# Altium schematic symbol library WE-CBA.SchLib: 88 symbols (part 1 of 2)
Pins are listed as number, name and electrical type; pins without a type are passive.

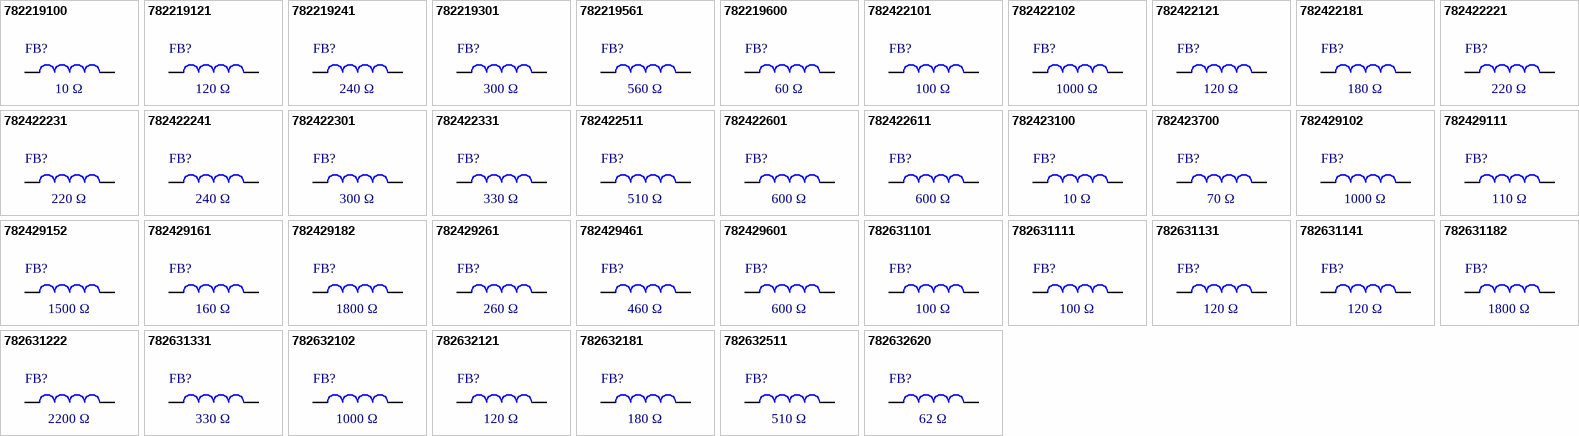
[diagram p0: symbols 782219100 to 782632620]

## 782219100
designator FB?, comment 10 Ω
WE-CBA SMT EMI Suppression Ferrite Bead, size 0201, 10 Ω, 650 mA; Manufacturer Part Number: 782219100; Manufacturer: Wurth Elektronik; Case/Size Code: 0201; DC Resistance: 55 mΩ; Impedance Max: 12.6 Ω; Rated Current: 650 mA; Type: Wide Band; Category: Ferrites for PCB Assembly; Match Code: WE-CBA; ComponentLink1Description: Website Link; ComponentLink1URL: https://www.we-online.com/redexpert/article/782219100?ad; ComponentLink2Description: Datasheet Link; ComponentLink2URL: https://www.we-online.com/redexpert/spec/782219100?ad; Mount: Surface Mount; Min Operating Temperature: -55 °C; Max Operating Temperature: 125 °C; Packaging: Tape and Reel; Length: 0.6 mm; Width: 0.3 mm; Height: 0.3 mm; Impedance @100MHz: 10 Ω
footprint WE-CBA_0201_L0.6W0.3H0.3_HF_HS_WB
simulation model 0201_782219100_10ohm
pins: 1, 2

## 782219121
designator FB?, comment 120 Ω
WE-CBA SMT EMI Suppression Ferrite Bead, size 0201, 120 Ω, 250 mA; Manufacturer Part Number: 782219121; Manufacturer: Wurth Elektronik; Case/Size Code: 0201; DC Resistance: 290 mΩ; Impedance Max: 259 Ω; Rated Current: 250 mA; Type: Wide Band; Category: Ferrites for PCB Assembly; Match Code: WE-CBA; ComponentLink1Description: Website Link; ComponentLink1URL: https://www.we-online.com/redexpert/article/782219121?ad; ComponentLink2Description: Datasheet Link; ComponentLink2URL: https://www.we-online.com/redexpert/spec/782219121?ad; Mount: Surface Mount; Min Operating Temperature: -55 °C; Max Operating Temperature: 125 °C; Packaging: Tape and Reel; Length: 0.6 mm; Width: 0.3 mm; Height: 0.3 mm; Impedance @100MHz: 120 Ω
footprint WE-CBA_0201_L0.6W0.3H0.3_HF_HS_WB
simulation model 0201_782219121_120ohm
pins: 1, 2

## 782219241
designator FB?, comment 240 Ω
WE-CBA SMT EMI Suppression Ferrite Bead, size 0201, 240 Ω, 300 mA; Manufacturer Part Number: 782219241; Manufacturer: Wurth Elektronik; Case/Size Code: 0201; DC Resistance: 570 mΩ; Impedance Max: 536 Ω; Rated Current: 300 mA; Type: Wide Band; Category: Ferrites for PCB Assembly; Match Code: WE-CBA; ComponentLink1Description: Website Link; ComponentLink1URL: https://www.we-online.com/redexpert/article/782219241?ad; ComponentLink2Description: Datasheet Link; ComponentLink2URL: https://www.we-online.com/redexpert/spec/782219241?ad; Mount: Surface Mount; Min Operating Temperature: -55 °C; Max Operating Temperature: 125 °C; Packaging: Tape and Reel; Length: 0.6 mm; Width: 0.3 mm; Height: 0.3 mm; Impedance @100MHz: 240 Ω
footprint WE-CBA_0201_L0.6W0.3H0.3_HF_HS_WB
simulation model 0201_782219241_240ohm
pins: 1, 2

## 782219301
designator FB?, comment 300 Ω
WE-CBA SMT EMI Suppression Ferrite Bead, size 0201, 300 Ω, 400 mA; Manufacturer Part Number: 782219301; Manufacturer: Wurth Elektronik; Case/Size Code: 0201; DC Resistance: 610 mΩ; Impedance Max: 455 Ω; Rated Current: 400 mA; Type: Wide Band; Category: Ferrites for PCB Assembly; Match Code: WE-CBA; ComponentLink1Description: Website Link; ComponentLink1URL: https://www.we-online.com/redexpert/article/782219301?ad; ComponentLink2Description: Datasheet Link; ComponentLink2URL: https://www.we-online.com/redexpert/spec/782219301?ad; Mount: Surface Mount; Min Operating Temperature: -55 °C; Max Operating Temperature: 125 °C; Packaging: Tape and Reel; Length: 0.6 mm; Width: 0.3 mm; Height: 0.3 mm; Impedance @100MHz: 300 Ω
footprint WE-CBA_0201_L0.6W0.3H0.3_HF_HS_WB
simulation model 0201_782219301_300ohm
pins: 1, 2

## 782219561
designator FB?, comment 560 Ω
WE-CBA SMT EMI Suppression Ferrite Bead, size 0201, 560 Ω, 250 mA; Manufacturer Part Number: 782219561; Manufacturer: Wurth Elektronik; Case/Size Code: 0201; DC Resistance: 750 mΩ; Impedance Max: 750 Ω; Rated Current: 250 mA; Type: Wide Band; Category: Ferrites for PCB Assembly; Match Code: WE-CBA; ComponentLink1Description: Website Link; ComponentLink1URL: https://www.we-online.com/redexpert/article/782219561?ad; ComponentLink2Description: Datasheet Link; ComponentLink2URL: https://www.we-online.com/redexpert/spec/782219561?ad; Mount: Surface Mount; Min Operating Temperature: -55 °C; Max Operating Temperature: 125 °C; Packaging: Tape and Reel; Length: 0.6 mm; Width: 0.3 mm; Height: 0.3 mm; Impedance @100MHz: 560 Ω
footprint WE-CBA_0201_L0.6W0.3H0.3_HF_HS_WB
simulation model 0201_782219561_560ohm
pins: 1, 2

## 782219600
designator FB?, comment 60 Ω
WE-CBA SMT EMI Suppression Ferrite Bead, size 0201, 60 Ω, 400 mA; Manufacturer Part Number: 782219600; Manufacturer: Wurth Elektronik; Case/Size Code: 0201; DC Resistance: 250 mΩ; Impedance Max: 135 Ω; Rated Current: 400 mA; Type: Wide Band; Category: Ferrites for PCB Assembly; Match Code: WE-CBA; ComponentLink1Description: Website Link; ComponentLink1URL: https://www.we-online.com/redexpert/article/782219600?ad; ComponentLink2Description: Datasheet Link; ComponentLink2URL: https://www.we-online.com/redexpert/spec/782219600?ad; Mount: Surface Mount; Min Operating Temperature: -55 °C; Max Operating Temperature: 125 °C; Packaging: Tape and Reel; Length: 0.6 mm; Width: 0.3 mm; Height: 0.3 mm; Impedance @100MHz: 60 Ω
footprint WE-CBA_0201_L0.6W0.3H0.3_HF_HS_WB
simulation model 0201_782219600_60ohm
pins: 1, 2

## 782422101
designator FB?, comment 100 Ω
WE-CBA SMT EMI Suppression Ferrite Bead, size 0402, 100 Ω, 500 mA; Manufacturer Part Number: 782422101; Manufacturer: Wurth Elektronik; Case/Size Code: 0402; DC Resistance: 300 mΩ; Impedance Max: 180 Ω; Rated Current: 500 mA; Type: Wide Band; Category: Ferrites for PCB Assembly; Match Code: WE-CBA; ComponentLink1Description: Website Link; ComponentLink1URL: https://www.we-online.com/redexpert/article/782422101?ad; ComponentLink2Description: Datasheet Link; ComponentLink2URL: https://www.we-online.com/redexpert/spec/782422101?ad; Mount: Surface Mount; Min Operating Temperature: -55 °C; Max Operating Temperature: 125 °C; Packaging: Tape and Reel; Length: 1 mm; Width: 0.5 mm; Height: 0.5 mm; Impedance @100MHz: 100 Ω
footprint WE-CBA_0402_L1W0.5H0.5_HF_HS_WB
simulation model 0402_782422101_100ohm
pins: 1, 2

## 782422102
designator FB?, comment 1000 Ω
WE-CBA SMT EMI Suppression Ferrite Bead, size 0402, 1000 Ω, 200 mA; Manufacturer Part Number: 782422102; Manufacturer: Wurth Elektronik; Case/Size Code: 0402; DC Resistance: 1 Ω; Impedance Max: 1200 Ω; Rated Current: 200 mA; Type: Wide Band; Category: Ferrites for PCB Assembly; Match Code: WE-CBA; ComponentLink1Description: Website Link; ComponentLink1URL: https://www.we-online.com/redexpert/article/782422102?ad; ComponentLink2Description: Datasheet Link; ComponentLink2URL: https://www.we-online.com/redexpert/spec/782422102?ad; Mount: Surface Mount; Min Operating Temperature: -55 °C; Max Operating Temperature: 125 °C; Packaging: Tape and Reel; Length: 1 mm; Width: 0.5 mm; Height: 0.5 mm; Impedance @100MHz: 1000 Ω
footprint WE-CBA_0402_L1W0.5H0.5_HF_HS_WB
simulation model 0402_782422102_1000ohm
pins: 1, 2

## 782422121
designator FB?, comment 120 Ω
WE-CBA SMT EMI Suppression Ferrite Bead, size 0402, 120 Ω, 500 mA; Manufacturer Part Number: 782422121; Manufacturer: Wurth Elektronik; Case/Size Code: 0402; DC Resistance: 200 mΩ; Impedance Max: 200 Ω; Rated Current: 500 mA; Type: Wide Band; Category: Ferrites for PCB Assembly; Match Code: WE-CBA; ComponentLink1Description: Website Link; ComponentLink1URL: https://www.we-online.com/redexpert/article/782422121?ad; ComponentLink2Description: Datasheet Link; ComponentLink2URL: https://www.we-online.com/redexpert/spec/782422121?ad; Mount: Surface Mount; Min Operating Temperature: -55 °C; Max Operating Temperature: 125 °C; Packaging: Tape and Reel; Length: 1 mm; Width: 0.5 mm; Height: 0.5 mm; Impedance @100MHz: 120 Ω
footprint WE-CBA_0402_L1W0.5H0.5_HF_HS_WB
simulation model 0402_782422121_120ohm
pins: 1, 2

## 782422181
designator FB?, comment 180 Ω
WE-CBA SMT EMI Suppression Ferrite Bead, size 0402, 180 Ω, 400 mA; Manufacturer Part Number: 782422181; Manufacturer: Wurth Elektronik; Case/Size Code: 0402; DC Resistance: 300 mΩ; Impedance Max: 260 Ω; Rated Current: 400 mA; Type: Wide Band; Category: Ferrites for PCB Assembly; Match Code: WE-CBA; ComponentLink1Description: Website Link; ComponentLink1URL: https://www.we-online.com/redexpert/article/782422181?ad; ComponentLink2Description: Datasheet Link; ComponentLink2URL: https://www.we-online.com/redexpert/spec/782422181?ad; Mount: Surface Mount; Min Operating Temperature: -55 °C; Max Operating Temperature: 125 °C; Packaging: Tape and Reel; Length: 1 mm; Width: 0.5 mm; Height: 0.5 mm; Impedance @100MHz: 180 Ω
footprint WE-CBA_0402_L1W0.5H0.5_HF_HS_WB
simulation model 0402_782422181_180ohm
pins: 1, 2

## 782422221
designator FB?, comment 220 Ω
WE-CBA SMT EMI Suppression Ferrite Bead, size 0402, 220 Ω, 400 mA; Manufacturer Part Number: 782422221; Manufacturer: Wurth Elektronik; Case/Size Code: 0402; DC Resistance: 300 mΩ; Impedance Max: 330 Ω; Rated Current: 400 mA; Type: Wide Band; Category: Ferrites for PCB Assembly; Match Code: WE-CBA; ComponentLink1Description: Website Link; ComponentLink1URL: https://www.we-online.com/redexpert/article/782422221?ad; ComponentLink2Description: Datasheet Link; ComponentLink2URL: https://www.we-online.com/redexpert/spec/782422221?ad; Mount: Surface Mount; Min Operating Temperature: -55 °C; Max Operating Temperature: 125 °C; Packaging: Tape and Reel; Length: 1 mm; Width: 0.5 mm; Height: 0.5 mm; Impedance @100MHz: 220 Ω
footprint WE-CBA_0402_L1W0.5H0.5_HF_HS_WB
simulation model 0402_782422221_220ohm
pins: 1, 2

## 782422231
designator FB?, comment 220 Ω
WE-CBA SMT EMI Suppression Ferrite Bead, size 0402, 220 Ω, 300 mA; Manufacturer Part Number: 782422231; Manufacturer: Wurth Elektronik; Case/Size Code: 0402; DC Resistance: 350 mΩ; Impedance Max: 360 Ω; Rated Current: 300 mA; Type: Wide Band; Category: Ferrites for PCB Assembly; Match Code: WE-CBA; ComponentLink1Description: Website Link; ComponentLink1URL: https://www.we-online.com/redexpert/article/782422231?ad; ComponentLink2Description: Datasheet Link; ComponentLink2URL: https://www.we-online.com/redexpert/spec/782422231?ad; Mount: Surface Mount; Min Operating Temperature: -55 °C; Max Operating Temperature: 125 °C; Packaging: Tape and Reel; Length: 1 mm; Width: 0.5 mm; Height: 0.5 mm; Impedance @100MHz: 220 Ω
footprint WE-CBA_0402_L1W0.5H0.5_HF_HS_WB
simulation model 0402_782422231_220ohm
pins: 1, 2

## 782422241
designator FB?, comment 240 Ω
WE-CBA SMT EMI Suppression Ferrite Bead, size 0402, 240 Ω, 300 mA; Manufacturer Part Number: 782422241; Manufacturer: Wurth Elektronik; Case/Size Code: 0402; DC Resistance: 350 mΩ; Impedance Max: 290 Ω; Rated Current: 300 mA; Type: Wide Band; Category: Ferrites for PCB Assembly; Match Code: WE-CBA; ComponentLink1Description: Website Link; ComponentLink1URL: https://www.we-online.com/redexpert/article/782422241?ad; ComponentLink2Description: Datasheet Link; ComponentLink2URL: https://www.we-online.com/redexpert/spec/782422241?ad; Mount: Surface Mount; Min Operating Temperature: -55 °C; Max Operating Temperature: 125 °C; Packaging: Tape and Reel; Length: 1 mm; Width: 0.5 mm; Height: 0.5 mm; Impedance @100MHz: 240 Ω
footprint WE-CBA_0402_L1W0.5H0.5_HF_HS_WB
simulation model 0402_782422241_240ohm
pins: 1, 2

## 782422301
designator FB?, comment 300 Ω
WE-CBA SMT EMI Suppression Ferrite Bead, size 0402, 300 Ω, 200 mA; Manufacturer Part Number: 782422301; Manufacturer: Wurth Elektronik; Case/Size Code: 0402; DC Resistance: 700 mΩ; Impedance Max: 400 Ω; Rated Current: 200 mA; Type: Wide Band; Category: Ferrites for PCB Assembly; Match Code: WE-CBA; ComponentLink1Description: Website Link; ComponentLink1URL: https://www.we-online.com/redexpert/article/782422301?ad; ComponentLink2Description: Datasheet Link; ComponentLink2URL: https://www.we-online.com/redexpert/spec/782422301?ad; Mount: Surface Mount; Min Operating Temperature: -55 °C; Max Operating Temperature: 125 °C; Packaging: Tape and Reel; Length: 1 mm; Width: 0.5 mm; Height: 0.5 mm; Impedance @100MHz: 300 Ω
footprint WE-CBA_0402_L1W0.5H0.5_HF_HS_WB
simulation model 0402_782422301_300ohm
pins: 1, 2

## 782422331
designator FB?, comment 330 Ω
WE-CBA SMT EMI Suppression Ferrite Bead, size 0402, 330 Ω, 300 mA; Manufacturer Part Number: 782422331; Manufacturer: Wurth Elektronik; Case/Size Code: 0402; DC Resistance: 500 mΩ; Impedance Max: 640 Ω; Rated Current: 300 mA; Type: Wide Band; Category: Ferrites for PCB Assembly; Match Code: WE-CBA; ComponentLink1Description: Website Link; ComponentLink1URL: https://www.we-online.com/redexpert/article/782422331?ad; ComponentLink2Description: Datasheet Link; ComponentLink2URL: https://www.we-online.com/redexpert/spec/782422331?ad; Mount: Surface Mount; Min Operating Temperature: -55 °C; Max Operating Temperature: 125 °C; Packaging: Tape and Reel; Length: 1 mm; Width: 0.5 mm; Height: 0.5 mm; Impedance @100MHz: 330 Ω
footprint WE-CBA_0402_L1W0.5H0.5_HF_HS_WB
simulation model 0402_782422331_330ohm
pins: 1, 2

## 782422511
designator FB?, comment 510 Ω
WE-CBA SMT EMI Suppression Ferrite Bead, size 0402, 510 Ω, 200 mA; Manufacturer Part Number: 782422511; Manufacturer: Wurth Elektronik; Case/Size Code: 0402; DC Resistance: 800 mΩ; Impedance Max: 730 Ω; Rated Current: 200 mA; Type: Wide Band; Category: Ferrites for PCB Assembly; Match Code: WE-CBA; ComponentLink1Description: Website Link; ComponentLink1URL: https://www.we-online.com/redexpert/article/782422511?ad; ComponentLink2Description: Datasheet Link; ComponentLink2URL: https://www.we-online.com/redexpert/spec/782422511?ad; Mount: Surface Mount; Min Operating Temperature: -55 °C; Max Operating Temperature: 125 °C; Packaging: Tape and Reel; Length: 1 mm; Width: 0.5 mm; Height: 0.5 mm; Impedance @100MHz: 510 Ω
footprint WE-CBA_0402_L1W0.5H0.5_HF_HS_WB
simulation model 0402_782422511_510ohm
pins: 1, 2

## 782422601
designator FB?, comment 600 Ω
WE-CBA SMT EMI Suppression Ferrite Bead, size 0402, 600 Ω, 200 mA; Manufacturer Part Number: 782422601; Manufacturer: Wurth Elektronik; Case/Size Code: 0402; DC Resistance: 800 mΩ; Impedance Max: 800 Ω; Rated Current: 200 mA; Type: Wide Band; Category: Ferrites for PCB Assembly; Match Code: WE-CBA; ComponentLink1Description: Website Link; ComponentLink1URL: https://www.we-online.com/redexpert/article/782422601?ad; ComponentLink2Description: Datasheet Link; ComponentLink2URL: https://www.we-online.com/redexpert/spec/782422601?ad; Mount: Surface Mount; Min Operating Temperature: -55 °C; Max Operating Temperature: 125 °C; Packaging: Tape and Reel; Length: 1 mm; Width: 0.5 mm; Height: 0.5 mm; Impedance @100MHz: 600 Ω
footprint WE-CBA_0402_L1W0.5H0.5_HF_HS_WB
simulation model 0402_782422601_600ohm
pins: 1, 2

## 782422611
designator FB?, comment 600 Ω
WE-CBA SMT EMI Suppression Ferrite Bead, size 0402, 600 Ω, 300 mA; Manufacturer Part Number: 782422611; Manufacturer: Wurth Elektronik; Case/Size Code: 0402; DC Resistance: 600 mΩ; Impedance Max: 900 Ω; Rated Current: 300 mA; Type: Wide Band; Category: Ferrites for PCB Assembly; Match Code: WE-CBA; ComponentLink1Description: Website Link; ComponentLink1URL: https://www.we-online.com/redexpert/article/782422611?ad; ComponentLink2Description: Datasheet Link; ComponentLink2URL: https://www.we-online.com/redexpert/spec/782422611?ad; Mount: Surface Mount; Min Operating Temperature: -55 °C; Max Operating Temperature: 125 °C; Packaging: Tape and Reel; Length: 1 mm; Width: 0.5 mm; Height: 0.5 mm; Impedance @100MHz: 600 Ω
footprint WE-CBA_0402_L1W0.5H0.5_HF_HS_WB
simulation model 0402_782422611_600ohm
pins: 1, 2

## 782423100
designator FB?, comment 10 Ω
WE-CBA SMT EMI Suppression Ferrite Bead, size 0402, 10 Ω, 1.5 A; Manufacturer Part Number: 782423100; Manufacturer: Wurth Elektronik; Case/Size Code: 0402; DC Resistance: 30 mΩ; Impedance Max: 17 Ω; Rated Current: 1.5 A; Type: High Current; Category: Ferrites for PCB Assembly; Match Code: WE-CBA; ComponentLink1Description: Website Link; ComponentLink1URL: https://www.we-online.com/redexpert/article/782423100?ad; ComponentLink2Description: Datasheet Link; ComponentLink2URL: https://www.we-online.com/redexpert/spec/782423100?ad; Mount: Surface Mount; Min Operating Temperature: -55 °C; Max Operating Temperature: 125 °C; Packaging: Tape and Reel; Length: 1 mm; Width: 0.5 mm; Height: 0.5 mm; Impedance @100MHz: 10 Ω
footprint WE-CBA_0402_L1W0.5H0.5_HC
simulation model 0402_782423100_10ohm
pins: 1, 2

## 782423700
designator FB?, comment 70 Ω
WE-CBA SMT EMI Suppression Ferrite Bead, size 0402, 70 Ω, 1 A; Manufacturer Part Number: 782423700; Manufacturer: Wurth Elektronik; Case/Size Code: 0402; DC Resistance: 90 mΩ; Impedance Max: 140 Ω; Rated Current: 1 A; Type: High Current; Category: Ferrites for PCB Assembly; Match Code: WE-CBA; ComponentLink1Description: Website Link; ComponentLink1URL: https://www.we-online.com/redexpert/article/782423700?ad; ComponentLink2Description: Datasheet Link; ComponentLink2URL: https://www.we-online.com/redexpert/spec/782423700?ad; Mount: Surface Mount; Min Operating Temperature: -55 °C; Max Operating Temperature: 125 °C; Packaging: Tape and Reel; Length: 1 mm; Width: 0.5 mm; Height: 0.5 mm; Impedance @100MHz: 70 Ω
footprint WE-CBA_0402_L1W0.5H0.5_HC
simulation model 0402_782423700_70ohm
pins: 1, 2

## 782429102
designator FB?, comment 1000 Ω
WE-CBA SMT EMI Suppression Ferrite Bead, size 0402, 1000 Ω, 480 mA; Manufacturer Part Number: 782429102; Manufacturer: Wurth Elektronik; Case/Size Code: 0402; DC Resistance: 480 mΩ; Impedance Max: 1157 Ω; Rated Current: 480 mA; Type: Wide Band; Category: Ferrites for PCB Assembly; Match Code: WE-CBA; ComponentLink1Description: Website Link; ComponentLink1URL: https://www.we-online.com/redexpert/article/782429102?ad; ComponentLink2Description: Datasheet Link; ComponentLink2URL: https://www.we-online.com/redexpert/spec/782429102?ad; Mount: Surface Mount; Min Operating Temperature: -55 °C; Max Operating Temperature: 125 °C; Packaging: Tape and Reel; Length: 1 mm; Width: 0.5 mm; Height: 0.5 mm; Impedance @100MHz: 1000 Ω
footprint WE-CBA_0402_L1W0.5H0.5_HF_HS_WB
simulation model 0402_782429102_1000ohm
pins: 1, 2

## 782429111
designator FB?, comment 110 Ω
WE-CBA SMT EMI Suppression Ferrite Bead, size 0402, 110 Ω, 1.2 A; Manufacturer Part Number: 782429111; Manufacturer: Wurth Elektronik; Case/Size Code: 0402; DC Resistance: 90 mΩ; Impedance Max: 195 Ω; Rated Current: 1.2 A; Type: Wide Band; Category: Ferrites for PCB Assembly; Match Code: WE-CBA; ComponentLink1Description: Website Link; ComponentLink1URL: https://www.we-online.com/redexpert/article/782429111?ad; ComponentLink2Description: Datasheet Link; ComponentLink2URL: https://www.we-online.com/redexpert/spec/782429111?ad; Mount: Surface Mount; Min Operating Temperature: -55 °C; Max Operating Temperature: 125 °C; Packaging: Tape and Reel; Length: 1 mm; Width: 0.5 mm; Height: 0.5 mm; Impedance @100MHz: 110 Ω
footprint WE-CBA_0402_L1W0.5H0.5_HF_HS_WB
simulation model 0402_782429111_110ohm
pins: 1, 2

## 782429152
designator FB?, comment 1500 Ω
WE-CBA SMT EMI Suppression Ferrite Bead, size 0402, 1500 Ω, 500 mA; Manufacturer Part Number: 782429152; Manufacturer: Wurth Elektronik; Case/Size Code: 0402; DC Resistance: 500 mΩ; Impedance Max: 1533 Ω; Rated Current: 500 mA; Type: Wide Band; Category: Ferrites for PCB Assembly; Match Code: WE-CBA; ComponentLink1Description: Website Link; ComponentLink1URL: https://www.we-online.com/redexpert/article/782429152?ad; ComponentLink2Description: Datasheet Link; ComponentLink2URL: https://www.we-online.com/redexpert/spec/782429152?ad; Mount: Surface Mount; Min Operating Temperature: -55 °C; Max Operating Temperature: 125 °C; Packaging: Tape and Reel; Length: 1 mm; Width: 0.5 mm; Height: 0.5 mm; Impedance @100MHz: 1500 Ω
footprint WE-CBA_0402_L1W0.5H0.5_HF_HS_WB
simulation model 0402_782429152_1500ohm
pins: 1, 2

## 782429161
designator FB?, comment 160 Ω
WE-CBA SMT EMI Suppression Ferrite Bead, size 0402, 160 Ω, 1 A; Manufacturer Part Number: 782429161; Manufacturer: Wurth Elektronik; Case/Size Code: 0402; DC Resistance: 150 mΩ; Impedance Max: 280 Ω; Rated Current: 1 A; Type: High Current; Category: Ferrites for PCB Assembly; Match Code: WE-CBA; ComponentLink1Description: Website Link; ComponentLink1URL: https://www.we-online.com/redexpert/article/782429161?ad; ComponentLink2Description: Datasheet Link; ComponentLink2URL: https://www.we-online.com/redexpert/spec/782429161?ad; Mount: Surface Mount; Min Operating Temperature: -55 °C; Max Operating Temperature: 125 °C; Packaging: Tape and Reel; Length: 1 mm; Width: 0.5 mm; Height: 0.5 mm; Impedance @100MHz: 160 Ω
footprint WE-CBA_0402_L1W0.5H0.5_HC
simulation model 0402_782429161_160ohm
pins: 1, 2

## 782429182
designator FB?, comment 1800 Ω
WE-CBA SMT EMI Suppression Ferrite Bead, size 0402, 1800 Ω, 210 mA; Manufacturer Part Number: 782429182; Manufacturer: Wurth Elektronik; Case/Size Code: 0402; DC Resistance: 2.1 Ω; Impedance Max: 2700 Ω; Rated Current: 210 mA; Type: High Frequency; Category: Ferrites for PCB Assembly; Match Code: WE-CBA; ComponentLink1Description: Website Link; ComponentLink1URL: https://www.we-online.com/redexpert/article/782429182?ad; ComponentLink2Description: Datasheet Link; ComponentLink2URL: https://www.we-online.com/redexpert/spec/782429182?ad; Mount: Surface Mount; Min Operating Temperature: -55 °C; Max Operating Temperature: 125 °C; Packaging: Tape and Reel; Length: 1 mm; Width: 0.5 mm; Height: 0.5 mm; Impedance @100MHz: 1800 Ω
footprint WE-CBA_0402_L1W0.5H0.5_HF_HS_WB
simulation model 0402_782429182_1800ohm
pins: 1, 2

## 782429261
designator FB?, comment 260 Ω
WE-CBA SMT EMI Suppression Ferrite Bead, size 0402, 260 Ω, 1 A; Manufacturer Part Number: 782429261; Manufacturer: Wurth Elektronik; Case/Size Code: 0402; DC Resistance: 150 mΩ; Impedance Max: 375 Ω; Rated Current: 1 A; Type: High Current; Category: Ferrites for PCB Assembly; Match Code: WE-CBA; ComponentLink1Description: Website Link; ComponentLink1URL: https://www.we-online.com/redexpert/article/782429261?ad; ComponentLink2Description: Datasheet Link; ComponentLink2URL: https://www.we-online.com/redexpert/spec/782429261?ad; Mount: Surface Mount; Min Operating Temperature: -55 °C; Max Operating Temperature: 125 °C; Packaging: Tape and Reel; Length: 1 mm; Width: 0.5 mm; Height: 0.5 mm; Impedance @100MHz: 260 Ω
footprint WE-CBA_0402_L1W0.5H0.5_HC
simulation model 0402_782429261_260ohm
pins: 1, 2

## 782429461
designator FB?, comment 460 Ω
WE-CBA SMT EMI Suppression Ferrite Bead, size 0402, 460 Ω, 500 mA; Manufacturer Part Number: 782429461; Manufacturer: Wurth Elektronik; Case/Size Code: 0402; DC Resistance: 550 mΩ; Impedance Max: 1250 Ω; Rated Current: 500 mA; Type: High Speed; Category: Ferrites for PCB Assembly; Match Code: WE-CBA; ComponentLink1Description: Website Link; ComponentLink1URL: https://www.we-online.com/redexpert/article/782429461?ad; ComponentLink2Description: Datasheet Link; ComponentLink2URL: https://www.we-online.com/redexpert/spec/782429461?ad; Mount: Surface Mount; Min Operating Temperature: -55 °C; Max Operating Temperature: 125 °C; Packaging: Tape and Reel; Length: 1 mm; Width: 0.5 mm; Height: 0.5 mm; Impedance @100MHz: 460 Ω
footprint WE-CBA_0402_L1W0.5H0.5_HF_HS_WB
simulation model 0402_782429461_460ohm
pins: 1, 2

## 782429601
designator FB?, comment 600 Ω
WE-CBA SMT EMI Suppression Ferrite Bead, size 0402, 600 Ω, 850 mA; Manufacturer Part Number: 782429601; Manufacturer: Wurth Elektronik; Case/Size Code: 0402; DC Resistance: 250 mΩ; Impedance Max: 720 Ω; Rated Current: 850 mA; Type: Wide Band; Category: Ferrites for PCB Assembly; Match Code: WE-CBA; ComponentLink1Description: Website Link; ComponentLink1URL: https://www.we-online.com/redexpert/article/782429601?ad; ComponentLink2Description: Datasheet Link; ComponentLink2URL: https://www.we-online.com/redexpert/spec/782429601?ad; Mount: Surface Mount; Min Operating Temperature: -55 °C; Max Operating Temperature: 125 °C; Packaging: Tape and Reel; Length: 1 mm; Width: 0.5 mm; Height: 0.5 mm; Impedance @100MHz: 600 Ω
footprint WE-CBA_0402_L1W0.5H0.5_HF_HS_WB
simulation model 0402_782429601_600ohm
pins: 1, 2

## 782631101
designator FB?, comment 100 Ω
WE-CBA SMT EMI Suppression Ferrite Bead, size 0603, 100 Ω, 500 mA; Manufacturer Part Number: 782631101; Manufacturer: Wurth Elektronik; Case/Size Code: 0603; DC Resistance: 200 mΩ; Impedance Max: 610 Ω; Rated Current: 500 mA; Type: High Speed; Category: Ferrites for PCB Assembly; Match Code: WE-CBA; ComponentLink1Description: Website Link; ComponentLink1URL: https://www.we-online.com/redexpert/article/782631101?ad; ComponentLink2Description: Datasheet Link; ComponentLink2URL: https://www.we-online.com/redexpert/spec/782631101?ad; Mount: Surface Mount; Min Operating Temperature: -55 °C; Max Operating Temperature: 125 °C; Packaging: Tape and Reel; Length: 1.6 mm; Width: 0.8 mm; Height: 0.8 mm; Impedance @100MHz: 100 Ω
footprint WE-CBA_0603_L1.6W0.8H0.8_HF_HS_WB
simulation model 0603_782631101_100ohm
pins: 1, 2

## 782631111
designator FB?, comment 100 Ω
WE-CBA SMT EMI Suppression Ferrite Bead, size 0603, 100 Ω, 500 mA; Manufacturer Part Number: 782631111; Manufacturer: Wurth Elektronik; Case/Size Code: 0603; DC Resistance: 120 mΩ; Impedance Max: 125 Ω; Rated Current: 500 mA; Type: Wide Band; Category: Ferrites for PCB Assembly; Match Code: WE-CBA; ComponentLink1Description: Website Link; ComponentLink1URL: https://www.we-online.com/redexpert/article/782631111?ad; ComponentLink2Description: Datasheet Link; ComponentLink2URL: https://www.we-online.com/redexpert/spec/782631111?ad; Mount: Surface Mount; Min Operating Temperature: -55 °C; Max Operating Temperature: 125 °C; Packaging: Tape and Reel; Length: 1.6 mm; Width: 0.8 mm; Height: 0.8 mm; Impedance @100MHz: 100 Ω
footprint WE-CBA_0603_L1.6W0.8H0.8_HF_HS_WB
simulation model 0603_782631111_100ohm
pins: 1, 2

## 782631131
designator FB?, comment 120 Ω
WE-CBA SMT EMI Suppression Ferrite Bead, size 0603, 120 Ω, 500 mA; Manufacturer Part Number: 782631131; Manufacturer: Wurth Elektronik; Case/Size Code: 0603; DC Resistance: 120 mΩ; Impedance Max: 200 Ω; Rated Current: 500 mA; Type: Wide Band; Category: Ferrites for PCB Assembly; Match Code: WE-CBA; ComponentLink1Description: Website Link; ComponentLink1URL: https://www.we-online.com/redexpert/article/782631131?ad; ComponentLink2Description: Datasheet Link; ComponentLink2URL: https://www.we-online.com/redexpert/spec/782631131?ad; Mount: Surface Mount; Min Operating Temperature: -55 °C; Max Operating Temperature: 125 °C; Packaging: Tape and Reel; Length: 1.6 mm; Width: 0.8 mm; Height: 0.8 mm; Impedance @100MHz: 120 Ω
footprint WE-CBA_0603_L1.6W0.8H0.8_HF_HS_WB
simulation model 0603_782631131_120ohm
pins: 1, 2

## 782631141
designator FB?, comment 120 Ω
WE-CBA SMT EMI Suppression Ferrite Bead, size 0603, 120 Ω, 2 A; Manufacturer Part Number: 782631141; Manufacturer: Wurth Elektronik; Case/Size Code: 0603; DC Resistance: 50 mΩ; Impedance Max: 180 Ω; Rated Current: 2 A; Type: High Current; Category: Ferrites for PCB Assembly; Match Code: WE-CBA; ComponentLink1Description: Website Link; ComponentLink1URL: https://www.we-online.com/redexpert/article/782631141?ad; ComponentLink2Description: Datasheet Link; ComponentLink2URL: https://www.we-online.com/redexpert/spec/782631141?ad; Mount: Surface Mount; Min Operating Temperature: -55 °C; Max Operating Temperature: 125 °C; Packaging: Tape and Reel; Length: 1.6 mm; Width: 0.8 mm; Height: 0.8 mm; Impedance @100MHz: 120 Ω
footprint WE-CBA_0603_L1.6W0.8H0.8_HC
simulation model 0603_782631141_120ohm
pins: 1, 2

## 782631182
designator FB?, comment 1800 Ω
WE-CBA SMT EMI Suppression Ferrite Bead, size 0603, 1800 Ω, 100 mA; Manufacturer Part Number: 782631182; Manufacturer: Wurth Elektronik; Case/Size Code: 0603; DC Resistance: 750 mΩ; Impedance Max: 2300 Ω; Rated Current: 100 mA; Type: High Speed; Category: Ferrites for PCB Assembly; Match Code: WE-CBA; ComponentLink1Description: Website Link; ComponentLink1URL: https://www.we-online.com/redexpert/article/782631182?ad; ComponentLink2Description: Datasheet Link; ComponentLink2URL: https://www.we-online.com/redexpert/spec/782631182?ad; Mount: Surface Mount; Min Operating Temperature: -55 °C; Max Operating Temperature: 125 °C; Packaging: Tape and Reel; Length: 1.6 mm; Width: 0.8 mm; Height: 0.8 mm; Impedance @100MHz: 1800 Ω
footprint WE-CBA_0603_L1.6W0.8H0.8_HF_HS_WB
simulation model 0603_782631182_1800ohm
pins: 1, 2

## 782631222
designator FB?, comment 2200 Ω
WE-CBA SMT EMI Suppression Ferrite Bead, size 0603, 2200 Ω, 150 mA; Manufacturer Part Number: 782631222; Manufacturer: Wurth Elektronik; Case/Size Code: 0603; DC Resistance: 800 mΩ; Impedance Max: 2250 Ω; Rated Current: 150 mA; Type: High Speed; Category: Ferrites for PCB Assembly; Match Code: WE-CBA; ComponentLink1Description: Website Link; ComponentLink1URL: https://www.we-online.com/redexpert/article/782631222?ad; ComponentLink2Description: Datasheet Link; ComponentLink2URL: https://www.we-online.com/redexpert/spec/782631222?ad; Mount: Surface Mount; Min Operating Temperature: -55 °C; Max Operating Temperature: 125 °C; Packaging: Tape and Reel; Length: 1.6 mm; Width: 0.8 mm; Height: 0.8 mm; Impedance @100MHz: 2200 Ω
footprint WE-CBA_0603_L1.6W0.8H0.8_HF_HS_WB
simulation model 0603_782631222_2200ohm
pins: 1, 2

## 782631331
designator FB?, comment 330 Ω
WE-CBA SMT EMI Suppression Ferrite Bead, size 0603, 330 Ω, 400 mA; Manufacturer Part Number: 782631331; Manufacturer: Wurth Elektronik; Case/Size Code: 0603; DC Resistance: 250 mΩ; Impedance Max: 690 Ω; Rated Current: 400 mA; Type: High Speed; Category: Ferrites for PCB Assembly; Match Code: WE-CBA; ComponentLink1Description: Website Link; ComponentLink1URL: https://www.we-online.com/redexpert/article/782631331?ad; ComponentLink2Description: Datasheet Link; ComponentLink2URL: https://www.we-online.com/redexpert/spec/782631331?ad; Mount: Surface Mount; Min Operating Temperature: -55 °C; Max Operating Temperature: 125 °C; Packaging: Tape and Reel; Length: 1.6 mm; Width: 0.8 mm; Height: 0.8 mm; Impedance @100MHz: 330 Ω
footprint WE-CBA_0603_L1.6W0.8H0.8_HF_HS_WB
simulation model 0603_782631331_330ohm
pins: 1, 2

## 782632102
designator FB?, comment 1000 Ω
WE-CBA SMT EMI Suppression Ferrite Bead, size 0603, 1000 Ω, 800 mA; Manufacturer Part Number: 782632102; Manufacturer: Wurth Elektronik; Case/Size Code: 0603; DC Resistance: 500 mΩ; Impedance Max: 1100 Ω; Rated Current: 800 mA; Type: Wide Band; Category: Ferrites for PCB Assembly; Match Code: WE-CBA; ComponentLink1Description: Website Link; ComponentLink1URL: https://www.we-online.com/redexpert/article/782632102?ad; ComponentLink2Description: Datasheet Link; ComponentLink2URL: https://www.we-online.com/redexpert/spec/782632102?ad; Mount: Surface Mount; Min Operating Temperature: -55 °C; Max Operating Temperature: 125 °C; Packaging: Tape and Reel; Length: 1.6 mm; Width: 0.8 mm; Height: 0.8 mm; Impedance @100MHz: 1000 Ω
footprint WE-CBA_0603_L1.6W0.8H0.8_HF_HS_WB
simulation model 0603_782632102_1000ohm
pins: 1, 2

## 782632121
designator FB?, comment 120 Ω
WE-CBA SMT EMI Suppression Ferrite Bead, size 0603, 120 Ω, 500 mA; Manufacturer Part Number: 782632121; Manufacturer: Wurth Elektronik; Case/Size Code: 0603; DC Resistance: 200 mΩ; Impedance Max: 190 Ω; Rated Current: 500 mA; Type: Wide Band; Category: Ferrites for PCB Assembly; Match Code: WE-CBA; ComponentLink1Description: Website Link; ComponentLink1URL: https://www.we-online.com/redexpert/article/782632121?ad; ComponentLink2Description: Datasheet Link; ComponentLink2URL: https://www.we-online.com/redexpert/spec/782632121?ad; Mount: Surface Mount; Min Operating Temperature: -55 °C; Max Operating Temperature: 125 °C; Packaging: Tape and Reel; Length: 1.6 mm; Width: 0.8 mm; Height: 0.8 mm; Impedance @100MHz: 120 Ω
footprint WE-CBA_0603_L1.6W0.8H0.8_HF_HS_WB
simulation model 0603_782632121_120ohm
pins: 1, 2

## 782632181
designator FB?, comment 180 Ω
WE-CBA SMT EMI Suppression Ferrite Bead, size 0603, 180 Ω, 500 mA; Manufacturer Part Number: 782632181; Manufacturer: Wurth Elektronik; Case/Size Code: 0603; DC Resistance: 200 mΩ; Impedance Max: 280 Ω; Rated Current: 500 mA; Type: Wide Band; Category: Ferrites for PCB Assembly; Match Code: WE-CBA; ComponentLink1Description: Website Link; ComponentLink1URL: https://www.we-online.com/redexpert/article/782632181?ad; ComponentLink2Description: Datasheet Link; ComponentLink2URL: https://www.we-online.com/redexpert/spec/782632181?ad; Mount: Surface Mount; Min Operating Temperature: -55 °C; Max Operating Temperature: 125 °C; Packaging: Tape and Reel; Length: 1.6 mm; Width: 0.8 mm; Height: 0.8 mm; Impedance @100MHz: 180 Ω
footprint WE-CBA_0603_L1.6W0.8H0.8_HF_HS_WB
simulation model 0603_782632181_180ohm
pins: 1, 2

## 782632511
designator FB?, comment 510 Ω
WE-CBA SMT EMI Suppression Ferrite Bead, size 0603, 510 Ω, 300 mA; Manufacturer Part Number: 782632511; Manufacturer: Wurth Elektronik; Case/Size Code: 0603; DC Resistance: 350 mΩ; Impedance Max: 610 Ω; Rated Current: 300 mA; Type: Wide Band; Category: Ferrites for PCB Assembly; Match Code: WE-CBA; ComponentLink1Description: Website Link; ComponentLink1URL: https://www.we-online.com/redexpert/article/782632511?ad; ComponentLink2Description: Datasheet Link; ComponentLink2URL: https://www.we-online.com/redexpert/spec/782632511?ad; Mount: Surface Mount; Min Operating Temperature: -55 °C; Max Operating Temperature: 125 °C; Packaging: Tape and Reel; Length: 1.6 mm; Width: 0.8 mm; Height: 0.8 mm; Impedance @100MHz: 510 Ω
footprint WE-CBA_0603_L1.6W0.8H0.8_HF_HS_WB
simulation model 0603_782632511_510ohm
pins: 1, 2

## 782632620
designator FB?, comment 62 Ω
WE-CBA SMT EMI Suppression Ferrite Bead, size 0603, 62 Ω, 500 mA; Manufacturer Part Number: 782632620; Manufacturer: Wurth Elektronik; Case/Size Code: 0603; DC Resistance: 150 mΩ; Impedance Max: 95 Ω; Rated Current: 500 mA; Type: Wide Band; Category: Ferrites for PCB Assembly; Match Code: WE-CBA; ComponentLink1Description: Website Link; ComponentLink1URL: https://www.we-online.com/redexpert/article/782632620?ad; ComponentLink2Description: Datasheet Link; ComponentLink2URL: https://www.we-online.com/redexpert/spec/782632620?ad; Mount: Surface Mount; Min Operating Temperature: -55 °C; Max Operating Temperature: 125 °C; Packaging: Tape and Reel; Length: 1.6 mm; Width: 0.8 mm; Height: 0.8 mm; Impedance @100MHz: 62 Ω
footprint WE-CBA_0603_L1.6W0.8H0.8_HF_HS_WB
simulation model 0603_782632620_62ohm
pins: 1, 2

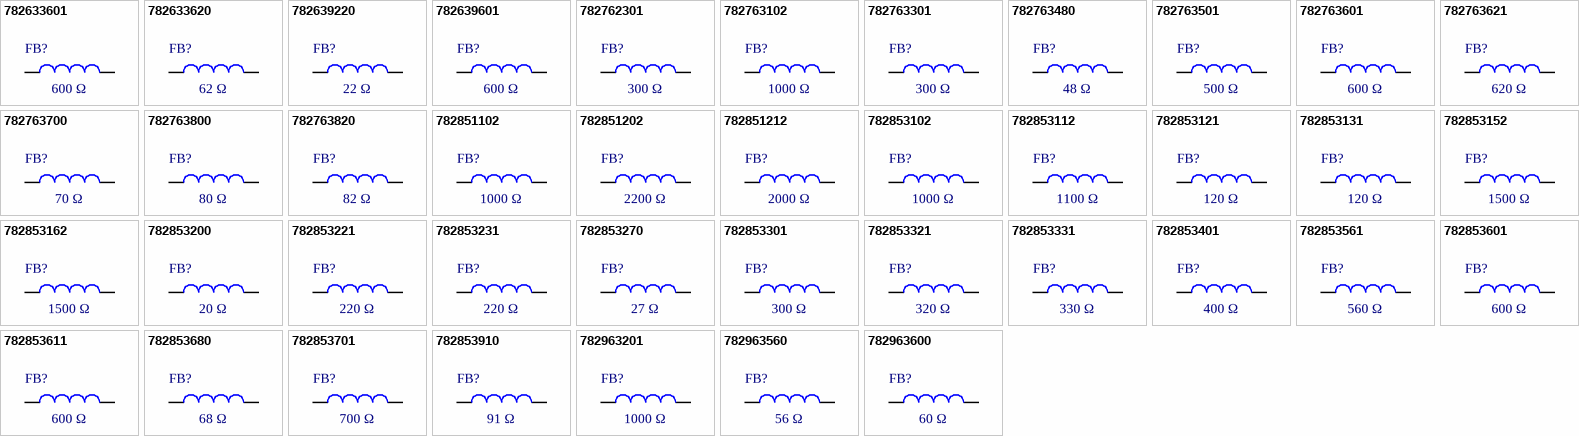
[diagram p1: symbols 782633601 to 782963600]

## 782633601
designator FB?, comment 600 Ω
WE-CBA SMT EMI Suppression Ferrite Bead, size 0603, 600 Ω, 1 A; Manufacturer Part Number: 782633601; Manufacturer: Wurth Elektronik; Case/Size Code: 0603; DC Resistance: 200 mΩ; Impedance Max: 660 Ω; Rated Current: 1 A; Type: High Current; Category: Ferrites for PCB Assembly; Match Code: WE-CBA; ComponentLink1Description: Website Link; ComponentLink1URL: https://www.we-online.com/redexpert/article/782633601?ad; ComponentLink2Description: Datasheet Link; ComponentLink2URL: https://www.we-online.com/redexpert/spec/782633601?ad; Mount: Surface Mount; Min Operating Temperature: -55 °C; Max Operating Temperature: 125 °C; Packaging: Tape and Reel; Length: 1.6 mm; Width: 0.8 mm; Height: 0.8 mm; Impedance @100MHz: 600 Ω
footprint WE-CBA_0603_L1.6W0.8H0.8_HC
simulation model 0603_782633601_600ohm
pins: 1, 2

## 782633620
designator FB?, comment 62 Ω
WE-CBA SMT EMI Suppression Ferrite Bead, size 0603, 62 Ω, 2.5 A; Manufacturer Part Number: 782633620; Manufacturer: Wurth Elektronik; Case/Size Code: 0603; DC Resistance: 40 mΩ; Impedance Max: 98 Ω; Rated Current: 2.5 A; Type: High Current; Category: Ferrites for PCB Assembly; Match Code: WE-CBA; ComponentLink1Description: Website Link; ComponentLink1URL: https://www.we-online.com/redexpert/article/782633620?ad; ComponentLink2Description: Datasheet Link; ComponentLink2URL: https://www.we-online.com/redexpert/spec/782633620?ad; Mount: Surface Mount; Min Operating Temperature: -55 °C; Max Operating Temperature: 125 °C; Packaging: Tape and Reel; Length: 1.6 mm; Width: 0.8 mm; Height: 0.8 mm; Impedance @100MHz: 62 Ω
footprint WE-CBA_0603_L1.6W0.8H0.8_HC
simulation model 0603_782633620_62ohm
pins: 1, 2

## 782639220
designator FB?, comment 22 Ω
WE-CBA SMT EMI Suppression Ferrite Bead, size 0603, 22 Ω, 7.5 A; Manufacturer Part Number: 782639220; Manufacturer: Wurth Elektronik; Case/Size Code: 0603; DC Resistance: 4 mΩ; Impedance Max: 41 Ω; Rated Current: 7.5 A; Type: High Current; Category: Ferrites for PCB Assembly; Match Code: WE-CBA; ComponentLink1Description: Website Link; ComponentLink1URL: https://www.we-online.com/redexpert/article/782639220?ad; ComponentLink2Description: Datasheet Link; ComponentLink2URL: https://www.we-online.com/redexpert/spec/782639220?ad; Mount: Surface Mount; Min Operating Temperature: -55 °C; Max Operating Temperature: 125 °C; Packaging: Tape and Reel; Length: 1.6 mm; Width: 0.8 mm; Height: 0.8 mm; Impedance @100MHz: 22 Ω
footprint WE-CBA_0603_L1.6W0.8H0.8_HC
simulation model 0603_782639220_22ohm
pins: 1, 2

## 782639601
designator FB?, comment 600 Ω
WE-CBA SMT EMI Suppression Ferrite Bead, size 0603, 600 Ω, 1.5 A; Manufacturer Part Number: 782639601; Manufacturer: Wurth Elektronik; Case/Size Code: 0603; DC Resistance: 100 mΩ; Impedance Max: 634 Ω; Rated Current: 1.5 A; Type: High Current; Category: Ferrites for PCB Assembly; Match Code: WE-CBA; ComponentLink1Description: Website Link; ComponentLink1URL: https://www.we-online.com/redexpert/article/782639601?ad; ComponentLink2Description: Datasheet Link; ComponentLink2URL: https://www.we-online.com/redexpert/spec/782639601?ad; Mount: Surface Mount; Min Operating Temperature: -55 °C; Max Operating Temperature: 125 °C; Packaging: Tape and Reel; Length: 1.6 mm; Width: 0.8 mm; Height: 0.8 mm; Impedance @100MHz: 600 Ω
footprint WE-CBA_0603_L1.6W0.8H0.8_HC
simulation model 0603_782639601_600ohm
pins: 1, 2

## 782762301
designator FB?, comment 300 Ω
WE-CBA SMT EMI Suppression Ferrite Bead, size 1206, 300 Ω, 500 mA; Manufacturer Part Number: 782762301; Manufacturer: Wurth Elektronik; Case/Size Code: 1206; DC Resistance: 100 mΩ; Impedance Max: 360 Ω; Rated Current: 500 mA; Type: Wide Band; Category: Ferrites for PCB Assembly; Match Code: WE-CBA; ComponentLink1Description: Website Link; ComponentLink1URL: https://www.we-online.com/redexpert/article/782762301?ad; ComponentLink2Description: Datasheet Link; ComponentLink2URL: https://www.we-online.com/redexpert/spec/782762301?ad; Mount: Surface Mount; Min Operating Temperature: -55 °C; Max Operating Temperature: 125 °C; Packaging: Tape and Reel; Length: 3.2 mm; Width: 1.6 mm; Height: 1.1 mm; Impedance @100MHz: 300 Ω
footprint WE-CBA_1206_L3.2W1.6H1.1_HF_HS_WB
simulation model 1206_782762301_300ohm
pins: 1, 2

## 782763102
designator FB?, comment 1000 Ω
WE-CBA SMT EMI Suppression Ferrite Bead, size 1206, 1000 Ω, 1 A; Manufacturer Part Number: 782763102; Manufacturer: Wurth Elektronik; Case/Size Code: 1206; DC Resistance: 300 mΩ; Impedance Max: 1200 Ω; Rated Current: 1 A; Type: High Current; Category: Ferrites for PCB Assembly; Match Code: WE-CBA; ComponentLink1Description: Website Link; ComponentLink1URL: https://www.we-online.com/redexpert/article/782763102?ad; ComponentLink2Description: Datasheet Link; ComponentLink2URL: https://www.we-online.com/redexpert/spec/782763102?ad; Mount: Surface Mount; Min Operating Temperature: -55 °C; Max Operating Temperature: 125 °C; Packaging: Tape and Reel; Length: 3.2 mm; Width: 1.6 mm; Height: 1.1 mm; Impedance @100MHz: 1000 Ω
footprint WE-CBA_1206_L3.2W1.6H1.1_HC
simulation model 1206_782763102_1000ohm
pins: 1, 2

## 782763301
designator FB?, comment 300 Ω
WE-CBA SMT EMI Suppression Ferrite Bead, size 1206, 300 Ω, 3 A; Manufacturer Part Number: 782763301; Manufacturer: Wurth Elektronik; Case/Size Code: 1206; DC Resistance: 60 mΩ; Impedance Max: 330 Ω; Rated Current: 3 A; Type: High Current; Category: Ferrites for PCB Assembly; Match Code: WE-CBA; ComponentLink1Description: Website Link; ComponentLink1URL: https://www.we-online.com/redexpert/article/782763301?ad; ComponentLink2Description: Datasheet Link; ComponentLink2URL: https://www.we-online.com/redexpert/spec/782763301?ad; Mount: Surface Mount; Min Operating Temperature: -55 °C; Max Operating Temperature: 125 °C; Packaging: Tape and Reel; Length: 3.2 mm; Width: 1.6 mm; Height: 1.1 mm; Impedance @100MHz: 300 Ω
footprint WE-CBA_1206_L3.2W1.6H1.1_HC
simulation model 1206_782763301_300ohm
pins: 1, 2

## 782763480
designator FB?, comment 48 Ω
WE-CBA SMT EMI Suppression Ferrite Bead, size 1206, 48 Ω, 6 A; Manufacturer Part Number: 782763480; Manufacturer: Wurth Elektronik; Case/Size Code: 1206; DC Resistance: 5 mΩ; Impedance Max: 90 Ω; Rated Current: 6 A; Type: High Current; Category: Ferrites for PCB Assembly; Match Code: WE-CBA; ComponentLink1Description: Website Link; ComponentLink1URL: https://www.we-online.com/redexpert/article/782763480?ad; ComponentLink2Description: Datasheet Link; ComponentLink2URL: https://www.we-online.com/redexpert/spec/782763480?ad; Mount: Surface Mount; Min Operating Temperature: -55 °C; Max Operating Temperature: 125 °C; Packaging: Tape and Reel; Length: 3.2 mm; Width: 1.6 mm; Height: 1.1 mm; Impedance @100MHz: 48 Ω
footprint WE-CBA_1206_L3.2W1.6H1.1_HC
simulation model 1206_782763480_48ohm
pins: 1, 2

## 782763501
designator FB?, comment 500 Ω
WE-CBA SMT EMI Suppression Ferrite Bead, size 1206, 500 Ω, 2.5 A; Manufacturer Part Number: 782763501; Manufacturer: Wurth Elektronik; Case/Size Code: 1206; DC Resistance: 60 mΩ; Impedance Max: 610 Ω; Rated Current: 2.5 A; Type: High Current; Category: Ferrites for PCB Assembly; Match Code: WE-CBA; ComponentLink1Description: Website Link; ComponentLink1URL: https://www.we-online.com/redexpert/article/782763501?ad; ComponentLink2Description: Datasheet Link; ComponentLink2URL: https://www.we-online.com/redexpert/spec/782763501?ad; Mount: Surface Mount; Min Operating Temperature: -55 °C; Max Operating Temperature: 125 °C; Packaging: Tape and Reel; Length: 3.2 mm; Width: 1.6 mm; Height: 1.1 mm; Impedance @100MHz: 500 Ω
footprint WE-CBA_1206_L3.2W1.6H1.1_HC
simulation model 1206_782763501_500ohm
pins: 1, 2

## 782763601
designator FB?, comment 600 Ω
WE-CBA SMT EMI Suppression Ferrite Bead, size 1206, 600 Ω, 2.5 A; Manufacturer Part Number: 782763601; Manufacturer: Wurth Elektronik; Case/Size Code: 1206; DC Resistance: 48 mΩ; Impedance Max: 650 Ω; Rated Current: 2.5 A; Type: High Current; Category: Ferrites for PCB Assembly; Match Code: WE-CBA; ComponentLink1Description: Website Link; ComponentLink1URL: https://www.we-online.com/redexpert/article/782763601?ad; ComponentLink2Description: Datasheet Link; ComponentLink2URL: https://www.we-online.com/redexpert/spec/782763601?ad; Mount: Surface Mount; Min Operating Temperature: -55 °C; Max Operating Temperature: 125 °C; Packaging: Tape and Reel; Length: 3.2 mm; Width: 1.6 mm; Height: 1.1 mm; Impedance @100MHz: 600 Ω
footprint WE-CBA_1206_L3.2W1.6H1.1_HC
simulation model 1206_782763601_600ohm
pins: 1, 2

## 782763621
designator FB?, comment 620 Ω
WE-CBA SMT EMI Suppression Ferrite Bead, size 1206, 620 Ω, 1.5 A; Manufacturer Part Number: 782763621; Manufacturer: Wurth Elektronik; Case/Size Code: 1206; DC Resistance: 100 mΩ; Rated Current: 1.5 A; Type: High Current; Category: Ferrites for PCB Assembly; Match Code: WE-CBA; ComponentLink1Description: Website Link; ComponentLink1URL: https://www.we-online.com/redexpert/article/782763621?ad; ComponentLink2Description: Datasheet Link; ComponentLink2URL: https://www.we-online.com/redexpert/spec/782763621?ad; Mount: Surface Mount; Min Operating Temperature: -55 °C; Max Operating Temperature: 125 °C; Packaging: Tape and Reel; Length: 3.2 mm; Width: 1.6 mm; Height: 1.1 mm; Impedance @100MHz: 620 Ω; Impedance Max: 620 Ω
footprint WE-CBA_1206_L3.2W1.6H1.1_HC
simulation model 1206_782763621_620ohm
pins: 1, 2

## 782763700
designator FB?, comment 70 Ω
WE-CBA SMT EMI Suppression Ferrite Bead, size 1206, 70 Ω, 500 mA; Manufacturer Part Number: 782763700; Manufacturer: Wurth Elektronik; Case/Size Code: 1206; DC Resistance: 150 mΩ; Impedance Max: 105 Ω; Rated Current: 500 mA; Type: High Speed; Category: Ferrites for PCB Assembly; Match Code: WE-CBA; ComponentLink1Description: Website Link; ComponentLink1URL: https://www.we-online.com/redexpert/article/782763700?ad; ComponentLink2Description: Datasheet Link; ComponentLink2URL: https://www.we-online.com/redexpert/spec/782763700?ad; Mount: Surface Mount; Min Operating Temperature: -55 °C; Max Operating Temperature: 125 °C; Packaging: Tape and Reel; Length: 3.2 mm; Width: 1.6 mm; Height: 1.1 mm; Impedance @100MHz: 70 Ω
footprint WE-CBA_1206_L3.2W1.6H1.1_HF_HS_WB
simulation model 1206_782763700_70ohm
pins: 1, 2

## 782763800
designator FB?, comment 80 Ω
WE-CBA SMT EMI Suppression Ferrite Bead, size 1206, 80 Ω, 4 A; Manufacturer Part Number: 782763800; Manufacturer: Wurth Elektronik; Case/Size Code: 1206; DC Resistance: 20 mΩ; Impedance Max: 160 Ω; Rated Current: 4 A; Type: High Current; Category: Ferrites for PCB Assembly; Match Code: WE-CBA; ComponentLink1Description: Website Link; ComponentLink1URL: https://www.we-online.com/redexpert/article/782763800?ad; ComponentLink2Description: Datasheet Link; ComponentLink2URL: https://www.we-online.com/redexpert/spec/782763800?ad; Mount: Surface Mount; Min Operating Temperature: -55 °C; Max Operating Temperature: 125 °C; Packaging: Tape and Reel; Length: 3.2 mm; Width: 1.6 mm; Height: 1.1 mm; Impedance @100MHz: 80 Ω
footprint WE-CBA_1206_L3.2W1.6H1.1_HC
simulation model 1206_782763800_80ohm
pins: 1, 2

## 782763820
designator FB?, comment 82 Ω
WE-CBA SMT EMI Suppression Ferrite Bead, size 1206, 82 Ω, 3 A; Manufacturer Part Number: 782763820; Manufacturer: Wurth Elektronik; Case/Size Code: 1206; DC Resistance: 25 mΩ; Impedance Max: 130 Ω; Rated Current: 3 A; Type: High Current; Category: Ferrites for PCB Assembly; Match Code: WE-CBA; ComponentLink1Description: Website Link; ComponentLink1URL: https://www.we-online.com/redexpert/article/782763820?ad; ComponentLink2Description: Datasheet Link; ComponentLink2URL: https://www.we-online.com/redexpert/spec/782763820?ad; Mount: Surface Mount; Min Operating Temperature: -55 °C; Max Operating Temperature: 125 °C; Packaging: Tape and Reel; Length: 3.2 mm; Width: 1.6 mm; Height: 1.1 mm; Impedance @100MHz: 82 Ω
footprint WE-CBA_1206_L3.2W1.6H1.1_HC
simulation model 1206_782763820_82ohm
pins: 1, 2

## 782851102
designator FB?, comment 1000 Ω
WE-CBA SMT EMI Suppression Ferrite Bead, size 0805, 1000 Ω, 300 mA; Manufacturer Part Number: 782851102; Manufacturer: Wurth Elektronik; Case/Size Code: 0805; DC Resistance: 350 mΩ; Impedance Max: 1100 Ω; Rated Current: 300 mA; Type: High Speed; Category: Ferrites for PCB Assembly; Match Code: WE-CBA; ComponentLink1Description: Website Link; ComponentLink1URL: https://www.we-online.com/redexpert/article/782851102?ad; ComponentLink2Description: Datasheet Link; ComponentLink2URL: https://www.we-online.com/redexpert/spec/782851102?ad; Mount: Surface Mount; Min Operating Temperature: -55 °C; Max Operating Temperature: 125 °C; Packaging: Tape and Reel; Length: 2 mm; Width: 1.2 mm; Height: 0.9 mm; Impedance @100MHz: 1000 Ω
footprint WE-CBA_0805_L2W1.2H0.9_HF_HS_WB
simulation model 0805_782851102_1000ohm
pins: 1, 2

## 782851202
designator FB?, comment 2200 Ω
WE-CBA SMT EMI Suppression Ferrite Bead, size 0805, 2200 Ω, 200 mA; Manufacturer Part Number: 782851202; Manufacturer: Wurth Elektronik; Case/Size Code: 0805; DC Resistance: 450 mΩ; Rated Current: 200 mA; Type: High Speed; Category: Ferrites for PCB Assembly; Match Code: WE-CBA; ComponentLink1Description: Website Link; ComponentLink1URL: https://www.we-online.com/redexpert/article/782851202?ad; ComponentLink2Description: Datasheet Link; ComponentLink2URL: https://www.we-online.com/redexpert/spec/782851202?ad; Mount: Surface Mount; Min Operating Temperature: -55 °C; Max Operating Temperature: 125 °C; Packaging: Tape and Reel; Length: 2 mm; Width: 1.2 mm; Height: 0.9 mm; Impedance @100MHz: 2200 Ω; Impedance Max: 2200 Ω
footprint WE-CBA_0805_L2W1.2H0.9_HF_HS_WB
simulation model 0805_782851202_2200ohm
pins: 1, 2

## 782851212
designator FB?, comment 2000 Ω
WE-CBA SMT EMI Suppression Ferrite Bead, size 0805, 2000 Ω, 400 mA; Manufacturer Part Number: 782851212; Manufacturer: Wurth Elektronik; Case/Size Code: 0805; DC Resistance: 420 mΩ; Rated Current: 400 mA; Type: High Speed; Category: Ferrites for PCB Assembly; Match Code: WE-CBA; ComponentLink1Description: Website Link; ComponentLink1URL: https://www.we-online.com/redexpert/article/782851212?ad; ComponentLink2Description: Datasheet Link; ComponentLink2URL: https://www.we-online.com/redexpert/spec/782851212?ad; Mount: Surface Mount; Min Operating Temperature: -55 °C; Max Operating Temperature: 125 °C; Packaging: Tape and Reel; Length: 2 mm; Width: 1.2 mm; Height: 0.9 mm; Impedance @100MHz: 2000 Ω; Impedance Max: 2000 Ω
footprint WE-CBA_0805_L2W1.2H0.9_HF_HS_WB
simulation model 0805_782851212_2000ohm
pins: 1, 2